# Altium footprint library Connector_PCBEdge.PcbLib: 101 footprints (part 7 of 7)
Each footprint in its own frame and in the unit in brackets; x right, y up, seen from the top. Pads: shape width x height; smd on the part's side, far side on the other; paste and mask are expansions set on the pad; w line width, h text height; cw(c..) or ccw(c..) is an arc to the next point about the centre after c.
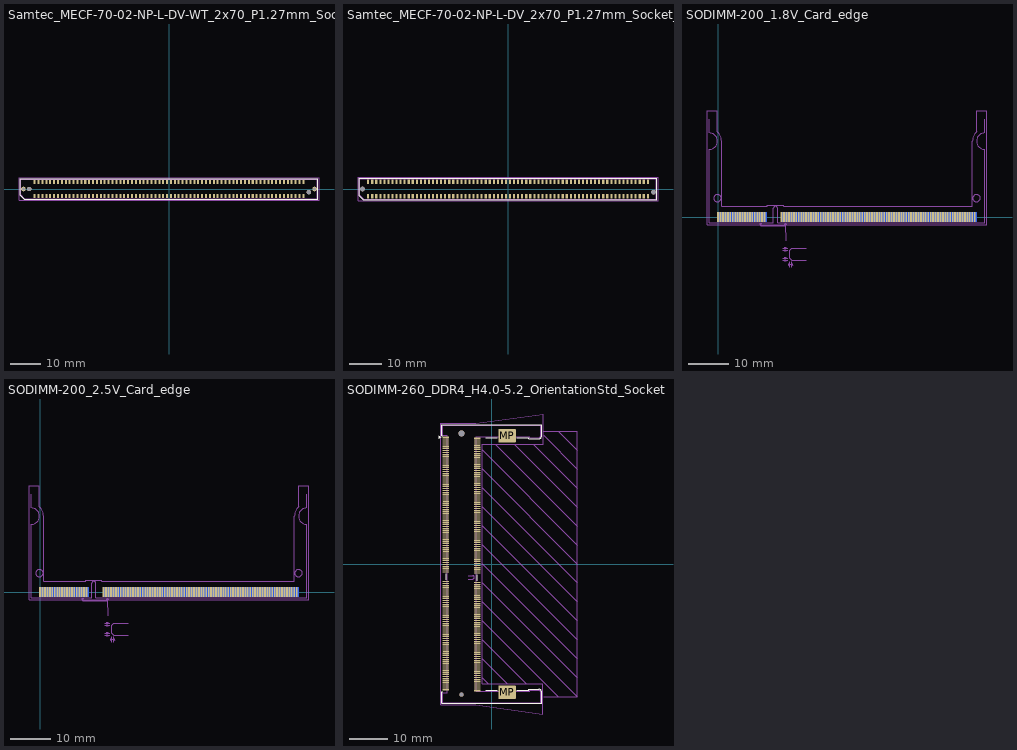
[diagram p6: the footprints below, top view; thin cyan lines are the x and y axes]

## Samtec_MECF-70-02-NP-L-DV-WT_2x70_P1.27mm_Socket_Horizontal [mm]
pads (144):
  rect 0.66x1.35 smd: 1(-43.815,-2.3) 2(-43.815,2.3) 3(-42.545,-2.3) 4(-42.545,2.3) 5(-41.275,-2.3) 6(-41.275,2.3) 7(-40.005,-2.3) 8(-40.005,2.3) 9(-38.735,-2.3) 10(-38.735,2.3) 11(-37.465,-2.3) 12(-37.465,2.3) 13(-36.195,-2.3) 14(-36.195,2.3) 15(-34.925,-2.3) 16(-34.925,2.3) 17(-33.655,-2.3) 18(-33.655,2.3) 19(-32.385,-2.3) 20(-32.385,2.3) 21(-31.115,-2.3) 22(-31.115,2.3) 23(-29.845,-2.3) 24(-29.845,2.3) 25(-28.575,-2.3) 26(-28.575,2.3) 27(-27.305,-2.3) 28(-27.305,2.3) 29(-26.035,-2.3) 30(-26.035,2.3) 31(-24.765,-2.3) 32(-24.765,2.3) 33(-23.495,-2.3) 34(-23.495,2.3) 35(-22.225,-2.3) 36(-22.225,2.3) 37(-20.955,-2.3) 38(-20.955,2.3) 39(-19.685,-2.3) 40(-19.685,2.3) 41(-18.415,-2.3) 42(-18.415,2.3) 43(-17.145,-2.3) 44(-17.145,2.3) 45(-15.875,-2.3) 46(-15.875,2.3) 47(-14.605,-2.3) 48(-14.605,2.3) 49(-13.335,-2.3) 50(-13.335,2.3) 51(-12.065,-2.3) 52(-12.065,2.3) 53(-10.795,-2.3) 54(-10.795,2.3) 55(-9.525,-2.3) 56(-9.525,2.3) 57(-8.255,-2.3) 58(-8.255,2.3) 59(-6.985,-2.3) 60(-6.985,2.3) 61(-5.715,-2.3) 62(-5.715,2.3) 63(-4.445,-2.3) 64(-4.445,2.3) 65(-3.175,-2.3) 66(-3.175,2.3) 67(-1.905,-2.3) 68(-1.905,2.3) 69(-0.635,-2.3) 70(-0.635,2.3) 71(0.635,-2.3) 72(0.635,2.3) 73(1.905,-2.3) 74(1.905,2.3) 75(3.175,-2.3) 76(3.175,2.3) 77(4.445,-2.3) 78(4.445,2.3) 79(5.715,-2.3) 80(5.715,2.3) 81(6.985,-2.3) 82(6.985,2.3) 83(8.255,-2.3) 84(8.255,2.3) 85(9.525,-2.3) 86(9.525,2.3) 87(10.795,-2.3) 88(10.795,2.3) 89(12.065,-2.3) 90(12.065,2.3) 91(13.335,-2.3) 92(13.335,2.3) 93(14.605,-2.3) 94(14.605,2.3) 95(15.875,-2.3) 96(15.875,2.3) 97(17.145,-2.3) 98(17.145,2.3) 99(18.415,-2.3) 100(18.415,2.3) 101(19.685,-2.3) 102(19.685,2.3) 103(20.955,-2.3) 104(20.955,2.3) 105(22.225,-2.3) 106(22.225,2.3) 107(23.495,-2.3) 108(23.495,2.3) 109(24.765,-2.3) 110(24.765,2.3) 111(26.035,-2.3) 112(26.035,2.3) 113(27.305,-2.3) 114(27.305,2.3) 115(28.575,-2.3) 116(28.575,2.3) 117(29.845,-2.3) 118(29.845,2.3) 119(31.115,-2.3) 120(31.115,2.3) 121(32.385,-2.3) 122(32.385,2.3) 123(33.655,-2.3) 124(33.655,2.3) 125(34.925,-2.3) 126(34.925,2.3) 127(36.195,-2.3) 128(36.195,2.3) 129(37.465,-2.3) 130(37.465,2.3) 131(38.735,-2.3) 132(38.735,2.3) 133(40.005,-2.3) 134(40.005,2.3) 135(41.275,-2.3) 136(41.275,2.3) 137(42.545,-2.3) 138(42.545,2.3) 139(43.815,-2.3) 140(43.815,2.3)
  round 1.5 hole 1: Un1(-47.5,0) Un4(47.5,0)
  round 1.45 hole 1.45: Un2(-45.595,0) Un3(45.595,-1)
F.SilkS:
  lines w0.254: -48.52,-2.04 -48.52,3.31 48.52,3.31 48.52,-3.31 -47.25,-3.31 -48.52,-2.04
Top Assembly:
  lines w0.254: -48.41,-1.93 -48.41,3.2 48.41,3.2 48.41,-3.2 -47.14,-3.2 -48.41,-1.93
  text "'.Designator'" at -4.047,-0.84 h1
Top Courtyard:
  lines w0.254: -48.91,-3.7 -48.91,3.7 48.91,3.7 48.91,-3.7 -48.91,-3.7
Top Designator:
  text ".Designator" at -7.618,-0.508 h1.52

## Samtec_MECF-70-02-NP-L-DV_2x70_P1.27mm_Socket_Horizontal [mm]
pads (142):
  rect 0.66x1.35 smd: 1(-43.815,-2.3) 2(-43.815,2.3) 3(-42.545,-2.3) 4(-42.545,2.3) 5(-41.275,-2.3) 6(-41.275,2.3) 7(-40.005,-2.3) 8(-40.005,2.3) 9(-38.735,-2.3) 10(-38.735,2.3) 11(-37.465,-2.3) 12(-37.465,2.3) 13(-36.195,-2.3) 14(-36.195,2.3) 15(-34.925,-2.3) 16(-34.925,2.3) 17(-33.655,-2.3) 18(-33.655,2.3) 19(-32.385,-2.3) 20(-32.385,2.3) 21(-31.115,-2.3) 22(-31.115,2.3) 23(-29.845,-2.3) 24(-29.845,2.3) 25(-28.575,-2.3) 26(-28.575,2.3) 27(-27.305,-2.3) 28(-27.305,2.3) 29(-26.035,-2.3) 30(-26.035,2.3) 31(-24.765,-2.3) 32(-24.765,2.3) 33(-23.495,-2.3) 34(-23.495,2.3) 35(-22.225,-2.3) 36(-22.225,2.3) 37(-20.955,-2.3) 38(-20.955,2.3) 39(-19.685,-2.3) 40(-19.685,2.3) 41(-18.415,-2.3) 42(-18.415,2.3) 43(-17.145,-2.3) 44(-17.145,2.3) 45(-15.875,-2.3) 46(-15.875,2.3) 47(-14.605,-2.3) 48(-14.605,2.3) 49(-13.335,-2.3) 50(-13.335,2.3) 51(-12.065,-2.3) 52(-12.065,2.3) 53(-10.795,-2.3) 54(-10.795,2.3) 55(-9.525,-2.3) 56(-9.525,2.3) 57(-8.255,-2.3) 58(-8.255,2.3) 59(-6.985,-2.3) 60(-6.985,2.3) 61(-5.715,-2.3) 62(-5.715,2.3) 63(-4.445,-2.3) 64(-4.445,2.3) 65(-3.175,-2.3) 66(-3.175,2.3) 67(-1.905,-2.3) 68(-1.905,2.3) 69(-0.635,-2.3) 70(-0.635,2.3) 71(0.635,-2.3) 72(0.635,2.3) 73(1.905,-2.3) 74(1.905,2.3) 75(3.175,-2.3) 76(3.175,2.3) 77(4.445,-2.3) 78(4.445,2.3) 79(5.715,-2.3) 80(5.715,2.3) 81(6.985,-2.3) 82(6.985,2.3) 83(8.255,-2.3) 84(8.255,2.3) 85(9.525,-2.3) 86(9.525,2.3) 87(10.795,-2.3) 88(10.795,2.3) 89(12.065,-2.3) 90(12.065,2.3) 91(13.335,-2.3) 92(13.335,2.3) 93(14.605,-2.3) 94(14.605,2.3) 95(15.875,-2.3) 96(15.875,2.3) 97(17.145,-2.3) 98(17.145,2.3) 99(18.415,-2.3) 100(18.415,2.3) 101(19.685,-2.3) 102(19.685,2.3) 103(20.955,-2.3) 104(20.955,2.3) 105(22.225,-2.3) 106(22.225,2.3) 107(23.495,-2.3) 108(23.495,2.3) 109(24.765,-2.3) 110(24.765,2.3) 111(26.035,-2.3) 112(26.035,2.3) 113(27.305,-2.3) 114(27.305,2.3) 115(28.575,-2.3) 116(28.575,2.3) 117(29.845,-2.3) 118(29.845,2.3) 119(31.115,-2.3) 120(31.115,2.3) 121(32.385,-2.3) 122(32.385,2.3) 123(33.655,-2.3) 124(33.655,2.3) 125(34.925,-2.3) 126(34.925,2.3) 127(36.195,-2.3) 128(36.195,2.3) 129(37.465,-2.3) 130(37.465,2.3) 131(38.735,-2.3) 132(38.735,2.3) 133(40.005,-2.3) 134(40.005,2.3) 135(41.275,-2.3) 136(41.275,2.3) 137(42.545,-2.3) 138(42.545,2.3) 139(43.815,-2.3) 140(43.815,2.3)
  round 1.45 hole 1.45: Un1(-45.595,0) Un2(45.595,-1)
F.SilkS:
  lines w0.254: -46.61,-2.04 -46.61,3.31 46.61,3.31 46.61,-3.31 -45.34,-3.31 -46.61,-2.04
Top Assembly:
  lines w0.254: -46.505,-1.93 -46.505,3.2 46.505,3.2 46.505,-3.2 -45.235,-3.2 -46.505,-1.93
  text "'.Designator'" at -4.047,-0.84 h1
Top Courtyard:
  lines w0.254: -47.01,-3.7 -47.01,3.7 47.01,3.7 47.01,-3.7 -47.01,-3.7
Top Designator:
  text ".Designator" at -7.618,-0.508 h1.52

## SODIMM-200_1.8V_Card_edge [mm]
pads (200):
  rect 0.45x2.35 smd: 1(0,0) 3(0.6,0) 5(1.2,0) 7(1.8,0) 9(2.4,0) 11(3,0) 13(3.6,0) 15(4.2,0) 17(4.8,0) 19(5.4,0) 21(6,0) 23(6.6,0) 25(7.2,0) 27(7.8,0) 29(8.4,0) 31(9,0) 33(9.6,0) 35(10.2,0) 37(10.8,0) 39(11.4,0) 41(15.6,0) 43(16.2,0) 45(16.8,0) 47(17.4,0) 49(18,0) 51(18.6,0) 53(19.2,0) 55(19.8,0) 57(20.4,0) 59(21,0) 61(21.6,0) 63(22.2,0) 65(22.8,0) 67(23.4,0) 69(24,0) 71(24.6,0) 73(25.2,0) 75(25.8,0) 77(26.4,0) 79(27,0) 81(27.6,0) 83(28.2,0) 85(28.8,0) 87(29.4,0) 89(30,0) 91(30.6,0) 93(31.2,0) 95(31.8,0) 97(32.4,0) 99(33,0) 101(33.6,0) 103(34.2,0) 105(34.8,0) 107(35.4,0) 109(36,0) 111(36.6,0) 113(37.2,0) 115(37.8,0) 117(38.4,0) 119(39,0) 121(39.6,0) 123(40.2,0) 125(40.8,0) 127(41.4,0) 129(42,0) 131(42.6,0) 133(43.2,0) 135(43.8,0) 137(44.4,0) 139(45,0) 141(45.6,0) 143(46.2,0) 145(46.8,0) 147(47.4,0) 149(48,0) 151(48.6,0) 153(49.2,0) 155(49.8,0) 157(50.4,0) 159(51,0) 161(51.6,0) 163(52.2,0) 165(52.8,0) 167(53.4,0) 169(54,0) 171(54.6,0) 173(55.2,0) 175(55.8,0) 177(56.4,0) 179(57,0) 181(57.6,0) 183(58.2,0) 185(58.8,0) 187(59.4,0) 189(60,0) 191(60.6,0) 193(61.2,0) 195(61.8,0) 197(62.4,0) 199(63,0)
  rect 0.45x2.35 smd far side: 2(0.3,0) 4(0.9,0) 6(1.5,0) 8(2.1,0) 10(2.7,0) 12(3.3,0) 14(3.9,0) 16(4.5,0) 18(5.1,0) 20(5.7,0) 22(6.3,0) 24(6.9,0) 26(7.5,0) 28(8.1,0) 30(8.7,0) 32(9.3,0) 34(9.9,0) 36(10.5,0) 38(11.1,0) 40(11.7,0) 42(15.9,0) 44(16.5,0) 46(17.1,0) 48(17.7,0) 50(18.3,0) 52(18.9,0) 54(19.5,0) 56(20.1,0) 58(20.7,0) 60(21.3,0) 62(21.9,0) 64(22.5,0) 66(23.1,0) 68(23.7,0) 70(24.3,0) 72(24.9,0) 74(25.5,0) 76(26.1,0) 78(26.7,0) 80(27.3,0) 82(27.9,0) 84(28.5,0) 86(29.1,0) 88(29.7,0) 90(30.3,0) 92(30.9,0) 94(31.5,0) 96(32.1,0) 98(32.7,0) 100(33.3,0) 102(33.9,0) 104(34.5,0) 106(35.1,0) 108(35.7,0) 110(36.3,0) 112(36.9,0) 114(37.5,0) 116(38.1,0) 118(38.7,0) 120(39.3,0) 122(39.9,0) 124(40.5,0) 126(41.1,0) 128(41.7,0) 130(42.3,0) 132(42.9,0) 134(43.5,0) 136(44.1,0) 138(44.7,0) 140(45.3,0) 142(45.9,0) 144(46.5,0) 146(47.1,0) 148(47.7,0) 150(48.3,0) 152(48.9,0) 154(49.5,0) 156(50.1,0) 158(50.7,0) 160(51.3,0) 162(51.9,0) 164(52.5,0) 166(53.1,0) 168(53.7,0) 170(54.3,0) 172(54.9,0) 174(55.5,0) 176(56.1,0) 178(56.7,0) 180(57.3,0) 182(57.9,0) 184(58.5,0) 186(59.1,0) 188(59.7,0) 190(60.3,0) 192(60.9,0) 194(61.5,0) 196(62.1,0) 198(62.7,0) 200(63.3,0)
F.Mask:
  lines w0.254: -0.352,-1.302 13.6,-1.302 13.6,1.302 -0.352,1.302 -0.352,-1.302 ; 14.6,-1.302 63.352,-1.302 63.352,1.302 14.6,1.302 14.6,-1.302
B.Mask:
  lines w0.254: -0.052,-1.302 13.6,-1.302 13.6,1.302 -0.052,1.302 -0.052,-1.302 ; 14.6,-1.302 63.652,-1.302 63.652,1.302 14.6,1.302 14.6,-1.302
Top Assembly:
  text "'.Designator'" at 27.603,-0.915 h1
Top Courtyard:
  lines w0.254: -2.65,-1.88 65.95,-1.88 65.95,26.03 63.45,26.03 63.45,20.87 ccw(c65.461,18.629) 62.45,18.63 62.45,2.63 16.1,2.63 16.1,2.83 12.1,2.83 12.1,2.63 0.85,2.63 0.85,18.63 ccw(c-2.161,18.629) -0.15,20.87 -0.15,26.03 -2.65,26.03 -2.65,-1.88
Bottom Courtyard:
  lines w0.254: -2.65,-1.88 65.95,-1.88 65.95,26.03 63.45,26.03 63.45,20.87 ccw(c65.461,18.629) 62.45,18.63 62.45,2.63 16.1,2.63 16.1,2.83 12.1,2.83 12.1,2.63 0.85,2.63 0.85,18.63 ccw(c-2.161,18.629) -0.15,20.87 -0.15,26.03 -2.65,26.03 -2.65,-1.88
Top Designator:
  text ".Designator" at 24.214,5.933 h1.52
Board Shape:
  lines w0.254: -2.15,24.025 -2.15,20.625 cw(c-2.15,18.625) -2.15,16.625 -2.15,-1.375 13.6,-1.375 13.6,2.125 cw(c14.1,2.125) 14.6,2.125 14.6,-1.375 65.45,-1.375 65.45,16.625 cw(c65.45,18.625) 65.45,20.625 65.45,24.025
Cmts.User:
  circle w0.254: c63.45,4.625 r0.9
  circle w0.254: c-0.15,4.625 r0.9
  lines w0.254: 10.45,-1.675 10.45,-2.175 16.55,-2.175 ; 15.85,-10.575 17.15,-10.575 ; 15.85,-10.075 17.15,-10.075 ; 15.85,-8.125 17.15,-8.125 ; 15.85,-7.625 17.15,-7.625 ; 16.3,-7.425 16.5,-7.625 ; 16.3,-7.375 16.7,-7.375 ; 16.55,-1.725 16.65,-5.775 ; 16.7,-7.425 16.5,-7.625 ; 17.6,-12.275 17.6,-10.975 ; 18.1,-12.275 18.1,-10.975 ; 21.6,-10.575 18.1,-10.575 17.6,-10.075 17.6,-8.125 18.1,-7.625 21.6,-7.625 ; 16.5,-10.575 16.7,-10.775 16.3,-10.775 16.5,-10.575 ; 16.5,-10.575 16.5,-10.075 ; 16.5,-10.075 16.7,-9.875 16.3,-9.875 16.5,-10.075 ; 16.5,-8.125 16.7,-8.325 16.3,-8.325 16.5,-8.125 ; 16.5,-8.125 16.5,-7.625 ; 17.6,-11.625 18.1,-11.625 ; 17.6,-11.625 17.4,-11.825 17.4,-11.425 17.6,-11.625 ; 18.1,-11.625 18.3,-11.825 18.3,-11.425 18.1,-11.625 ; 10.25,-1.675 10.65,-1.675 10.45,-1.475 10.25,-1.675 ; 16.35,-1.725 16.75,-1.725 16.55,-1.525 16.35,-1.725
  text "< 0.2mm" at 16.516,-13.175 h0.5
  text "Optional hole 1.8 diam mm" at -2.575,0.207 h0.5
  text "PCB Thickness 1 mm" at -0.039,-2.467 h0.5
  text "PCB connector edge" at 18.306,-9.558 h0.5
  text "Optional PCB chamfer setback:" at 13.747,-6.955 h0.5
  text "Optional hole 1.8mm diam" at 66.595,-0.087 h0.5
  text "< 0.2mm" at 12.116,-10.675 h0.5
  text "< 0.2mm" at 12.116,-8.175 h0.5

## SODIMM-200_2.5V_Card_edge [mm]
pads (200):
  rect 0.45x2.35 smd: 1(0,0) 3(0.6,0) 5(1.2,0) 7(1.8,0) 9(2.4,0) 11(3,0) 13(3.6,0) 15(4.2,0) 17(4.8,0) 19(5.4,0) 21(6,0) 23(6.6,0) 25(7.2,0) 27(7.8,0) 29(8.4,0) 31(9,0) 33(9.6,0) 35(10.2,0) 37(10.8,0) 39(11.4,0) 41(15.6,0) 43(16.2,0) 45(16.8,0) 47(17.4,0) 49(18,0) 51(18.6,0) 53(19.2,0) 55(19.8,0) 57(20.4,0) 59(21,0) 61(21.6,0) 63(22.2,0) 65(22.8,0) 67(23.4,0) 69(24,0) 71(24.6,0) 73(25.2,0) 75(25.8,0) 77(26.4,0) 79(27,0) 81(27.6,0) 83(28.2,0) 85(28.8,0) 87(29.4,0) 89(30,0) 91(30.6,0) 93(31.2,0) 95(31.8,0) 97(32.4,0) 99(33,0) 101(33.6,0) 103(34.2,0) 105(34.8,0) 107(35.4,0) 109(36,0) 111(36.6,0) 113(37.2,0) 115(37.8,0) 117(38.4,0) 119(39,0) 121(39.6,0) 123(40.2,0) 125(40.8,0) 127(41.4,0) 129(42,0) 131(42.6,0) 133(43.2,0) 135(43.8,0) 137(44.4,0) 139(45,0) 141(45.6,0) 143(46.2,0) 145(46.8,0) 147(47.4,0) 149(48,0) 151(48.6,0) 153(49.2,0) 155(49.8,0) 157(50.4,0) 159(51,0) 161(51.6,0) 163(52.2,0) 165(52.8,0) 167(53.4,0) 169(54,0) 171(54.6,0) 173(55.2,0) 175(55.8,0) 177(56.4,0) 179(57,0) 181(57.6,0) 183(58.2,0) 185(58.8,0) 187(59.4,0) 189(60,0) 191(60.6,0) 193(61.2,0) 195(61.8,0) 197(62.4,0) 199(63,0)
  rect 0.45x2.35 smd far side: 2(0.3,0) 4(0.9,0) 6(1.5,0) 8(2.1,0) 10(2.7,0) 12(3.3,0) 14(3.9,0) 16(4.5,0) 18(5.1,0) 20(5.7,0) 22(6.3,0) 24(6.9,0) 26(7.5,0) 28(8.1,0) 30(8.7,0) 32(9.3,0) 34(9.9,0) 36(10.5,0) 38(11.1,0) 40(11.7,0) 42(15.9,0) 44(16.5,0) 46(17.1,0) 48(17.7,0) 50(18.3,0) 52(18.9,0) 54(19.5,0) 56(20.1,0) 58(20.7,0) 60(21.3,0) 62(21.9,0) 64(22.5,0) 66(23.1,0) 68(23.7,0) 70(24.3,0) 72(24.9,0) 74(25.5,0) 76(26.1,0) 78(26.7,0) 80(27.3,0) 82(27.9,0) 84(28.5,0) 86(29.1,0) 88(29.7,0) 90(30.3,0) 92(30.9,0) 94(31.5,0) 96(32.1,0) 98(32.7,0) 100(33.3,0) 102(33.9,0) 104(34.5,0) 106(35.1,0) 108(35.7,0) 110(36.3,0) 112(36.9,0) 114(37.5,0) 116(38.1,0) 118(38.7,0) 120(39.3,0) 122(39.9,0) 124(40.5,0) 126(41.1,0) 128(41.7,0) 130(42.3,0) 132(42.9,0) 134(43.5,0) 136(44.1,0) 138(44.7,0) 140(45.3,0) 142(45.9,0) 144(46.5,0) 146(47.1,0) 148(47.7,0) 150(48.3,0) 152(48.9,0) 154(49.5,0) 156(50.1,0) 158(50.7,0) 160(51.3,0) 162(51.9,0) 164(52.5,0) 166(53.1,0) 168(53.7,0) 170(54.3,0) 172(54.9,0) 174(55.5,0) 176(56.1,0) 178(56.7,0) 180(57.3,0) 182(57.9,0) 184(58.5,0) 186(59.1,0) 188(59.7,0) 190(60.3,0) 192(60.9,0) 194(61.5,0) 196(62.1,0) 198(62.7,0) 200(63.3,0)
F.Mask:
  lines w0.254: -0.352,-1.302 12.7,-1.302 12.7,1.302 -0.352,1.302 -0.352,-1.302 ; 13.7,-1.302 63.352,-1.302 63.352,1.302 13.7,1.302 13.7,-1.302
B.Mask:
  lines w0.254: -0.052,-1.302 12.7,-1.302 12.7,1.302 -0.052,1.302 -0.052,-1.302 ; 13.7,-1.302 63.652,-1.302 63.652,1.302 13.7,1.302 13.7,-1.302
Top Assembly:
  text "'.Designator'" at 27.603,-0.915 h1
Top Courtyard:
  lines w0.254: -2.65,-1.88 65.95,-1.88 65.95,26.03 63.45,26.03 63.45,20.87 ccw(c65.461,18.629) 62.45,18.63 62.45,2.63 15.2,2.63 15.2,2.83 11.2,2.83 11.2,2.63 0.85,2.63 0.85,18.63 ccw(c-2.161,18.629) -0.15,20.87 -0.15,26.03 -2.65,26.03 -2.65,-1.88
Bottom Courtyard:
  lines w0.254: -2.65,-1.88 65.95,-1.88 65.95,26.03 63.45,26.03 63.45,20.87 ccw(c65.461,18.629) 62.45,18.63 62.45,2.63 15.2,2.63 15.2,2.83 11.2,2.83 11.2,2.63 0.85,2.63 0.85,18.63 ccw(c-2.161,18.629) -0.15,20.87 -0.15,26.03 -2.65,26.03 -2.65,-1.88
Top Designator:
  text ".Designator" at 24.214,5.933 h1.52
Board Shape:
  lines w0.254: -2.15,24.025 -2.15,20.625 cw(c-2.15,18.625) -2.15,16.625 -2.15,-1.375 12.7,-1.375 12.7,2.125 cw(c13.2,2.125) 13.7,2.125 13.7,-1.375 65.45,-1.375 65.45,16.625 cw(c65.45,18.625) 65.45,20.625 65.45,24.025
Cmts.User:
  circle w0.254: c63.45,4.625 r0.9
  circle w0.254: c-0.15,4.625 r0.9
  lines w0.254: 10.45,-1.675 10.45,-2.175 16.55,-2.175 ; 15.85,-10.575 17.15,-10.575 ; 15.85,-10.075 17.15,-10.075 ; 15.85,-8.125 17.15,-8.125 ; 15.85,-7.625 17.15,-7.625 ; 16.3,-7.425 16.5,-7.625 ; 16.3,-7.375 16.7,-7.375 ; 16.55,-1.725 16.65,-5.775 ; 16.7,-7.425 16.5,-7.625 ; 17.6,-12.275 17.6,-10.975 ; 18.1,-12.275 18.1,-10.975 ; 21.6,-10.575 18.1,-10.575 17.6,-10.075 17.6,-8.125 18.1,-7.625 21.6,-7.625 ; 16.5,-10.575 16.7,-10.775 16.3,-10.775 16.5,-10.575 ; 16.5,-10.575 16.5,-10.075 ; 16.5,-10.075 16.7,-9.875 16.3,-9.875 16.5,-10.075 ; 16.5,-8.125 16.7,-8.325 16.3,-8.325 16.5,-8.125 ; 16.5,-8.125 16.5,-7.625 ; 17.6,-11.625 18.1,-11.625 ; 17.6,-11.625 17.4,-11.825 17.4,-11.425 17.6,-11.625 ; 18.1,-11.625 18.3,-11.825 18.3,-11.425 18.1,-11.625 ; 10.25,-1.675 10.65,-1.675 10.45,-1.475 10.25,-1.675 ; 16.35,-1.725 16.75,-1.725 16.55,-1.525 16.35,-1.725
  text "< 0.2mm" at 16.516,-13.175 h0.5
  text "Optional hole 1.8 diam mm" at -2.575,0.207 h0.5
  text "PCB Thickness 1 mm" at -0.039,-2.467 h0.5
  text "PCB connector edge" at 18.306,-9.558 h0.5
  text "Optional PCB chamfer setback:" at 13.747,-6.955 h0.5
  text "Optional hole 1.8mm diam" at 66.595,-0.087 h0.5
  text "< 0.2mm" at 12.116,-10.675 h0.5
  text "< 0.2mm" at 12.116,-8.175 h0.5

## SODIMM-260_DDR4_H4.0-5.2_OrientationStd_Socket [mm]
pads (264):
  rrect25% 1.7x0.3 smd: 1(-12.025,33.375) 2(-3.825,33.125) 3(-12.025,32.875) 4(-3.825,32.625) 5(-12.025,32.375) 6(-3.825,32.125) 7(-12.025,31.875) 8(-3.825,31.625) 9(-12.025,31.375) 10(-3.825,31.125) 11(-12.025,30.875) 12(-3.825,30.625) 13(-12.025,30.375) 14(-3.825,30.125) 15(-12.025,29.875) 16(-3.825,29.625) 17(-12.025,29.375) 18(-3.825,29.125) 19(-12.025,28.875) 20(-3.825,28.625) 21(-12.025,28.375) 22(-3.825,28.125) 23(-12.025,27.875) 24(-3.825,27.625) 25(-12.025,27.375) 26(-3.825,27.125) 27(-12.025,26.875) 28(-3.825,26.625) 29(-12.025,26.375) 30(-3.825,26.125) 31(-12.025,25.875) 32(-3.825,25.625) 33(-12.025,25.375) 34(-3.825,25.125) 35(-12.025,24.875) 36(-3.825,24.625) 37(-12.025,24.375) 38(-3.825,24.125) 39(-12.025,23.875) 40(-3.825,23.625) 41(-12.025,23.375) 42(-3.825,23.125) 43(-12.025,22.875) 44(-3.825,22.625) 45(-12.025,22.375) 46(-3.825,22.125) 47(-12.025,21.875) 48(-3.825,21.625) 49(-12.025,21.375) 50(-3.825,21.125) 51(-12.025,20.875) 52(-3.825,20.625) 53(-12.025,20.375) 54(-3.825,20.125) 55(-12.025,19.875) 56(-3.825,19.625) 57(-12.025,19.375) 58(-3.825,19.125) 59(-12.025,18.875) 60(-3.825,18.625) 61(-12.025,18.375) 62(-3.825,18.125) 63(-12.025,17.875) 64(-3.825,17.625) 65(-12.025,17.375) 66(-3.825,17.125) 67(-12.025,16.875) 68(-3.825,16.625) 69(-12.025,16.375) 70(-3.825,16.125) 71(-12.025,15.875) 72(-3.825,15.625) 73(-12.025,15.375) 74(-3.825,15.125) 75(-12.025,14.875) 76(-3.825,14.625) 77(-12.025,14.375) 78(-3.825,14.125) 79(-12.025,13.875) 80(-3.825,13.625) 81(-12.025,13.375) 82(-3.825,13.125) 83(-12.025,12.875) 84(-3.825,12.625) 85(-12.025,12.375) 86(-3.825,12.125) 87(-12.025,11.875) 88(-3.825,11.625) 89(-12.025,11.375) 90(-3.825,11.125) 91(-12.025,10.875) 92(-3.825,10.625) 93(-12.025,10.375) 94(-3.825,10.125) 95(-12.025,9.875) 96(-3.825,9.625) 97(-12.025,9.375) 98(-3.825,9.125) 99(-12.025,8.875) 100(-3.825,8.625) 101(-12.025,8.375) 102(-3.825,8.125) 103(-12.025,7.875) 104(-3.825,7.625) 105(-12.025,7.375) 106(-3.825,7.125) 107(-12.025,6.875) 108(-3.825,6.625) 109(-12.025,6.375) 110(-3.825,6.125) 111(-12.025,5.875) 112(-3.825,5.625) 113(-12.025,5.375) 114(-3.825,5.125) 115(-12.025,4.875) 116(-3.825,4.625) 117(-12.025,4.375) 118(-3.825,4.125) 119(-12.025,3.875) 120(-3.825,3.625) 121(-12.025,3.375) 122(-3.825,3.125) 123(-12.025,2.875) 124(-3.825,2.625) 125(-12.025,2.375) 126(-3.825,2.125) 127(-12.025,1.875) 128(-3.825,1.625) 129(-12.025,1.375) 130(-3.825,1.125) 131(-12.025,0.875) 132(-3.825,0.625) 133(-12.025,0.375) 134(-3.825,0.125) 135(-12.025,-0.125) 136(-3.825,-0.375) 137(-12.025,-0.625) 138(-3.825,-0.875) 139(-12.025,-1.125) 140(-3.825,-1.375) 141(-12.025,-1.625) 142(-3.825,-1.875) 143(-12.025,-2.125) 144(-3.825,-2.375) 145(-12.025,-4.625) 146(-3.825,-4.875) 147(-12.025,-5.125) 148(-3.825,-5.375) 149(-12.025,-5.625) 150(-3.825,-5.875) 151(-12.025,-6.125) 152(-3.825,-6.375) 153(-12.025,-6.625) 154(-3.825,-6.875) 155(-12.025,-7.125) 156(-3.825,-7.375) 157(-12.025,-7.625) 158(-3.825,-7.875) 159(-12.025,-8.125) 160(-3.825,-8.375) 161(-12.025,-8.625) 162(-3.825,-8.875) 163(-12.025,-9.125) 164(-3.825,-9.375) 165(-12.025,-9.625) 166(-3.825,-9.875) 167(-12.025,-10.125) 168(-3.825,-10.375) 169(-12.025,-10.625) 170(-3.825,-10.875) 171(-12.025,-11.125) 172(-3.825,-11.375) 173(-12.025,-11.625) 174(-3.825,-11.875) 175(-12.025,-12.125) 176(-3.825,-12.375) 177(-12.025,-12.625) 178(-3.825,-12.875) 179(-12.025,-13.125) 180(-3.825,-13.375) 181(-12.025,-13.625) 182(-3.825,-13.875) 183(-12.025,-14.125) 184(-3.825,-14.375) 185(-12.025,-14.625) 186(-3.825,-14.875) 187(-12.025,-15.125) 188(-3.825,-15.375) 189(-12.025,-15.625) 190(-3.825,-15.875) 191(-12.025,-16.125) 192(-3.825,-16.375) 193(-12.025,-16.625) 194(-3.825,-16.875) 195(-12.025,-17.125) 196(-3.825,-17.375) 197(-12.025,-17.625) 198(-3.825,-17.875) 199(-12.025,-18.125) 200(-3.825,-18.375) 201(-12.025,-18.625) 202(-3.825,-18.875) 203(-12.025,-19.125) 204(-3.825,-19.375) 205(-12.025,-19.625) 206(-3.825,-19.875) 207(-12.025,-20.125) 208(-3.825,-20.375) 209(-12.025,-20.625) 210(-3.825,-20.875) 211(-12.025,-21.125) 212(-3.825,-21.375) 213(-12.025,-21.625) 214(-3.825,-21.875) 215(-12.025,-22.125) 216(-3.825,-22.375) 217(-12.025,-22.625) 218(-3.825,-22.875) 219(-12.025,-23.125) 220(-3.825,-23.375) 221(-12.025,-23.625) 222(-3.825,-23.875) 223(-12.025,-24.125) 224(-3.825,-24.375) 225(-12.025,-24.625) 226(-3.825,-24.875) 227(-12.025,-25.125) 228(-3.825,-25.375) 229(-12.025,-25.625) 230(-3.825,-25.875) 231(-12.025,-26.125) 232(-3.825,-26.375) 233(-12.025,-26.625) 234(-3.825,-26.875) 235(-12.025,-27.125) 236(-3.825,-27.375) 237(-12.025,-27.625) 238(-3.825,-27.875) 239(-12.025,-28.125) 240(-3.825,-28.375) 241(-12.025,-28.625) 242(-3.825,-28.875) 243(-12.025,-29.125) 244(-3.825,-29.375) 245(-12.025,-29.625) 246(-3.825,-29.875) 247(-12.025,-30.125) 248(-3.825,-30.375) 249(-12.025,-30.625) 250(-3.825,-30.875) 251(-12.025,-31.125) 252(-3.825,-31.375) 253(-12.025,-31.625) 254(-3.825,-31.875) 255(-12.025,-32.125) 256(-3.825,-32.375) 257(-12.025,-32.625) 258(-3.825,-32.875) 259(-12.025,-33.125) 260(-3.825,-33.375)
  rrect7% 4.6x3.5 smd: MP(4.075,-33.8) MP(4.075,33.8)
  round 1.6 hole 1.6: Un1(-7.925,34.4)
  round 1.1 hole 1.1: Un2(-7.925,-34.4)
F.SilkS:
  region: -13.23,33.4 -13.93,33 -13.93,33.8
  lines w0.254: -12.925,-33.7 -13.125,-33.7 -13.125,-36.7 13.175,-36.7 13.175,-33.7 ccw(c12.475,-33.7) 12.475,-33 9.825,-33 9.825,-33.3 6.675,-33.3 ; -12.925,33.8 -13.125,33.8 -13.125,36.7 13.175,36.7 13.175,33.7 cw(c12.475,33.7) 12.475,33 9.825,33 9.825,33.3 6.675,33.3 ; -11.925,-4.2 -11.925,-2.6 ; -3.825,-4.4 -3.825,-2.8 ; -1.5,-33.3 1.475,-33.3 ; -1.5,33.3 1.475,33.3
Top Assembly:
  lines w0.254: -6.138,-3.97 -5.008,-3.97 ccw(c-5.008,-3.5) -5.008,-3.03 -6.138,-3.03 ; -12.925,-36.5 12.925,-36.5 12.925,-33.7 ccw(c12.425,-33.7) 12.425,-33.2 10.075,-33.2 10.075,-33.55 -4.088,-33.55 -4.088,33.55 10.075,33.55 10.075,33.2 12.425,33.2 ccw(c12.425,33.7) 12.925,33.7 12.925,36.5 -12.925,36.5 -12.925,33.947 -11.688,33.947 -11.688,-33.903 -12.925,-33.903 -12.925,-36.5
  text "'.Designator'" at -2.472,-38.465 h1
Top Courtyard:
  lines w0.254: -13.43,-37 -4.23,-37 13.43,-39.5 13.43,-31.55 -2.47,-31.55 -2.47,31.55 13.67,31.55 13.67,39.5 -4.23,37 -13.43,37 -13.43,-37
Top Designator:
  text ".Designator" at -3.232,-0.508 h1.52
Dwgs.User:
  lines w0.254: -2.475,-29.95 -0.875,-31.55 ; -2.475,-24.95 4.125,-31.55 ; -2.475,-19.95 9.125,-31.55 ; -2.475,-14.95 17.575,-35 ; -2.475,-9.95 22.575,-35 ; -2.475,-4.95 22.575,-30 ; -2.475,0.05 22.575,-25 ; -2.475,5.05 22.575,-20 ; -2.475,10.05 22.575,-15 ; -2.475,15.05 22.575,-10 ; -2.475,20.05 22.575,-5 ; -2.475,25.05 22.575,0 ; -2.475,30.05 22.575,5 ; 1.025,31.55 22.575,10 ; 6.025,31.55 22.575,15 ; 11.025,31.55 22.575,20 ; 13.675,-35 22.575,-35 ; 13.675,33.9 22.575,25 ; 13.675,35 22.575,35 22.575,-35 ; 17.575,35 22.575,30
Cmts.User:
  text "SODIMM MODULE OVER THIS AREA" at 14.225,-11.843 h1